# Altium schematic symbol library kmilo17pet-TI_StepDown.SchLib: 565 symbols (part 11 of 33)
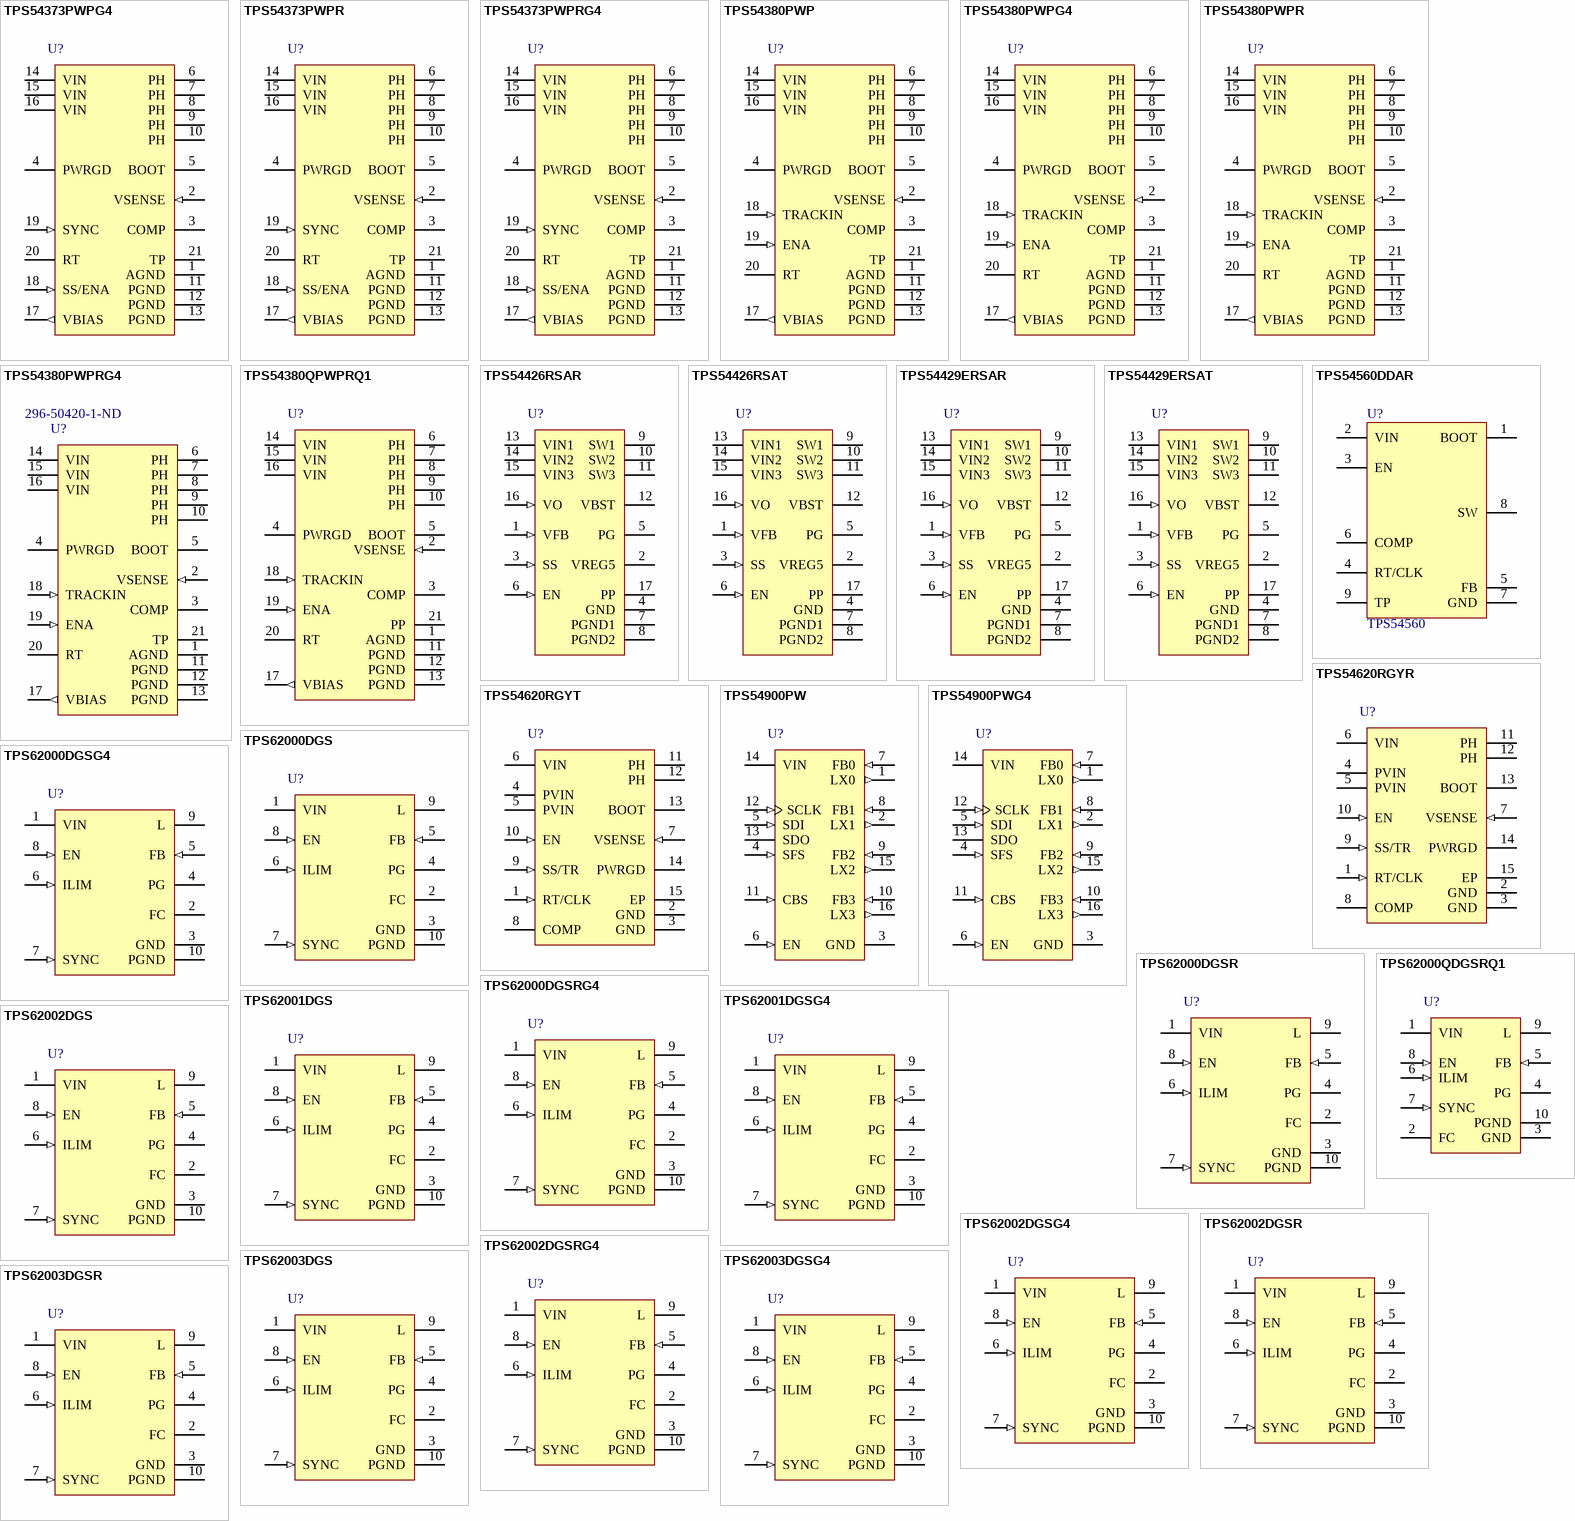
[diagram p29: symbols TPS54373PWPG4 to TPS62003DGSR]

## TPS54373PWPG4
designator U?
Buck Step Down Regulator with 3 to 6 V Input and 0.9 to 3.3 V Output, -40 to 85 degC, 20-Pin HTSSOP (PWP), Green (RoHS & no Sb/Br); Manufacturer: Texas Instruments; PartNumber: TPS54373PWPG4; Duty Cycle(Max)(%): 90; Iout(Max)(A): 3; Iq(Typ)(mA): 6.2; Rating: Catalog; Regulated Outputs(#): 1; SubFamily: Step-Down Regulator; Switch Current Limit(Typ)(A): 4; Synchronous Rectification: TRUE; Vin(Max)(V): 6; Vout(Max)(V): 3.3; Vout(Min)(V): 0.9; DatasheetVersion: SLVS455B; PackageVersion: revI, May-2011; PackageReference: PWP20-3005X2005TP; PackageDescription: 20-Pin PowerPAD Plastic Small Outline 6.5 x 4.4 mm Body ,0.65 mm Pitch, Exposed Pad; Supplier 1: Digi-Key; Supplier Part Number 1: TPS54373PWPG4-ND; Eco-Plan: Green (RoHS & no Sb/Br); Topology: Buck; Vin(Min)(V): 3; Mounting Technology: Surface Mount; Code_JEDEC: MO-153; ComponentLink1Description: Datasheet; ComponentLink1URL: http://www.ti.com/general/docs/lit/getliterature.tsp?genericPartNumber=TPS54373&fileType=pdf; ComponentLink2Description: Package Specification; ComponentLink2URL: http://www.ti.com/lit/ml/mhts001g/mhts001g.pdf; ComponentLink3Description: URL Link1; ComponentLink3URL: Samples URL:http://www.ti.com/product/tps54373#samples
footprint PWP20-3005X2005TP_N (TSOP, 20-Leads, Body 6.5x4.4mm, Pitch 0.65mm, Thermal Pad 3.7x2.4 mm, IPC Medium Density)
footprint PWP20-3005X2005TP_L (TSOP, 20-Leads, Body 6.5x4.4mm, Pitch 0.65mm, Thermal Pad 3.7x2.4 mm, IPC High Density)
footprint PWP20-3005X2005TP_M (TSOP, 20-Leads, Body 6.5x4.4mm, Pitch 0.65mm, Thermal Pad 3.7x2.4 mm, IPC Low Density)
pins: 1 AGND (power) "Analog ground. Return for compensation network/output divider, slow-start capacitor, VBIAS capacitor, RT resistor and SYNC pin. Connect PowerPAD to AGND.", 2 VSENSE (in) "Error amplifier inverting input. Connect to output voltage through compensation network/output divider.", 3 COMP "Error amplifier output. Connect frequency compensation network from COMP to VSENSE", 4 PWRGD (oc) "Power-good open-drain output. High when VSENSE >= 90% Vref, otherwise PWRGD is low. Note that output is low when SS/ENA is low, or the internal shutdown signal is active.", 5 BOOT "Bootstrap output. 0.022-uF to 0.1-uF low-ESR capacitor connected from BOOT to PH generates floating drive for the high-side FET driver.", 6 PH (power) "Phase output. Junction of the internal high-side and low-side power MOSFETs, and output inductor.", 7 PH (power) "Phase output. Junction of the internal high-side and low-side power MOSFETs, and output inductor.", 8 PH (power) "Phase output. Junction of the internal high-side and low-side power MOSFETs, and output inductor.", 9 PH (power) "Phase output. Junction of the internal high-side and low-side power MOSFETs, and output inductor.", 10 PH (power) "Phase output. Junction of the internal high-side and low-side power MOSFETs, and output inductor.", 11 PGND (power) "Power ground. High current return for the low-side driver and power MOSFET. Connect PGND with large copper areas to the input and output supply returns, and negative terminals of the input and output capacitors. A (See Datasheet)", 12 PGND (power) "Power ground. High current return for the low-side driver and power MOSFET. Connect PGND with large copper areas to the input and output supply returns, and negative terminals of the input and output capacitors. A (See Datasheet)", 13 PGND (power) "Power ground. High current return for the low-side driver and power MOSFET. Connect PGND with large copper areas to the input and output supply returns, and negative terminals of the input and output capacitors. A (See Datasheet)", 14 VIN (power) "Input supply for the power MOSFET switches and internal bias regulator. Bypass VIN pins to PGND pins close to device package with a high quality, low-ESR 10-uF ceramic capacitor.", 15 VIN (power) "Input supply for the power MOSFET switches and internal bias regulator. Bypass VIN pins to PGND pins close to device package with a high quality, low-ESR 10-uF ceramic capacitor.", 16 VIN (power) "Input supply for the power MOSFET switches and internal bias regulator. Bypass VIN pins to PGND pins close to device package with a high quality, low-ESR 10-uF ceramic capacitor.", 17 VBIAS (out) "Internal bias regulator output. Supplies regulated voltage to internal circuitry. Bypass VBIAS pin to AGND pin with a high quality, low-ESR 0.1-uF to 1.0-uF ceramic capacitor.", 18 SS/ENA (in) "Slow-start/enable input/output. Dual function pin which provides logic input to enable/disable device operation and capacitor input to externally set the start-up time.", 19 SYNC (in) "Synchronization input. Dual function pin which provides logic input to synchronize to an external oscillator or pin select between two internally set switching frequencies. When used to synchronize to an external signal, a (See Datasheet)", 20 RT "Frequency setting resistor input. Connect a resistor from RT to AGND to set the switching frequency. When using the SYNC pin, set the RT value for a frequency at or slightly lower than the external oscillator frequency.", 21 TP (power) "Exposed Thermal Pad"

## TPS54373PWPR
designator U?
Buck Step Down Regulator with 3 to 6 V Input and 0.9 to 3.3 V Output, -40 to 85 degC, 20-Pin HTSSOP (PWP), Green (RoHS & no Sb/Br); Manufacturer: Texas Instruments; PartNumber: TPS54373PWPR; Duty Cycle(Max)(%): 90; Iout(Max)(A): 3; Iq(Typ)(mA): 6.2; Rating: Catalog; Regulated Outputs(#): 1; SubFamily: Step-Down Regulator; Switch Current Limit(Typ)(A): 4; Synchronous Rectification: TRUE; Vin(Max)(V): 6; Vout(Max)(V): 3.3; Vout(Min)(V): 0.9; DatasheetVersion: SLVS455B; PackageVersion: revI, May-2011; PackageReference: PWP20-3005X2005TP; PackageDescription: 20-Pin PowerPAD Plastic Small Outline 6.5 x 4.4 mm Body ,0.65 mm Pitch, Exposed Pad; Supplier 1: Digi-Key; Supplier Part Number 1: TPS54373PWPR-ND; Eco-Plan: Green (RoHS & no Sb/Br); Topology: Buck; Vin(Min)(V): 3; Mounting Technology: Surface Mount; Code_JEDEC: MO-153; ComponentLink1Description: Datasheet; ComponentLink1URL: http://www.ti.com/general/docs/lit/getliterature.tsp?genericPartNumber=TPS54373&fileType=pdf; ComponentLink2Description: Package Specification; ComponentLink2URL: http://www.ti.com/lit/ml/mhts001g/mhts001g.pdf; ComponentLink3Description: URL Link1; ComponentLink3URL: Samples URL:http://www.ti.com/product/tps54373#samples
footprint PWP20-3005X2005TP_N (TSOP, 20-Leads, Body 6.5x4.4mm, Pitch 0.65mm, Thermal Pad 3.7x2.4 mm, IPC Medium Density)
footprint PWP20-3005X2005TP_L (TSOP, 20-Leads, Body 6.5x4.4mm, Pitch 0.65mm, Thermal Pad 3.7x2.4 mm, IPC High Density)
footprint PWP20-3005X2005TP_M (TSOP, 20-Leads, Body 6.5x4.4mm, Pitch 0.65mm, Thermal Pad 3.7x2.4 mm, IPC Low Density)
pins: 1 AGND (power) "Analog ground. Return for compensation network/output divider, slow-start capacitor, VBIAS capacitor, RT resistor and SYNC pin. Connect PowerPAD to AGND.", 2 VSENSE (in) "Error amplifier inverting input. Connect to output voltage through compensation network/output divider.", 3 COMP "Error amplifier output. Connect frequency compensation network from COMP to VSENSE", 4 PWRGD (oc) "Power-good open-drain output. High when VSENSE >= 90% Vref, otherwise PWRGD is low. Note that output is low when SS/ENA is low, or the internal shutdown signal is active.", 5 BOOT "Bootstrap output. 0.022-uF to 0.1-uF low-ESR capacitor connected from BOOT to PH generates floating drive for the high-side FET driver.", 6 PH (power) "Phase output. Junction of the internal high-side and low-side power MOSFETs, and output inductor.", 7 PH (power) "Phase output. Junction of the internal high-side and low-side power MOSFETs, and output inductor.", 8 PH (power) "Phase output. Junction of the internal high-side and low-side power MOSFETs, and output inductor.", 9 PH (power) "Phase output. Junction of the internal high-side and low-side power MOSFETs, and output inductor.", 10 PH (power) "Phase output. Junction of the internal high-side and low-side power MOSFETs, and output inductor.", 11 PGND (power) "Power ground. High current return for the low-side driver and power MOSFET. Connect PGND with large copper areas to the input and output supply returns, and negative terminals of the input and output capacitors. A (See Datasheet)", 12 PGND (power) "Power ground. High current return for the low-side driver and power MOSFET. Connect PGND with large copper areas to the input and output supply returns, and negative terminals of the input and output capacitors. A (See Datasheet)", 13 PGND (power) "Power ground. High current return for the low-side driver and power MOSFET. Connect PGND with large copper areas to the input and output supply returns, and negative terminals of the input and output capacitors. A (See Datasheet)", 14 VIN (power) "Input supply for the power MOSFET switches and internal bias regulator. Bypass VIN pins to PGND pins close to device package with a high quality, low-ESR 10-uF ceramic capacitor.", 15 VIN (power) "Input supply for the power MOSFET switches and internal bias regulator. Bypass VIN pins to PGND pins close to device package with a high quality, low-ESR 10-uF ceramic capacitor.", 16 VIN (power) "Input supply for the power MOSFET switches and internal bias regulator. Bypass VIN pins to PGND pins close to device package with a high quality, low-ESR 10-uF ceramic capacitor.", 17 VBIAS (out) "Internal bias regulator output. Supplies regulated voltage to internal circuitry. Bypass VBIAS pin to AGND pin with a high quality, low-ESR 0.1-uF to 1.0-uF ceramic capacitor.", 18 SS/ENA (in) "Slow-start/enable input/output. Dual function pin which provides logic input to enable/disable device operation and capacitor input to externally set the start-up time.", 19 SYNC (in) "Synchronization input. Dual function pin which provides logic input to synchronize to an external oscillator or pin select between two internally set switching frequencies. When used to synchronize to an external signal, a (See Datasheet)", 20 RT "Frequency setting resistor input. Connect a resistor from RT to AGND to set the switching frequency. When using the SYNC pin, set the RT value for a frequency at or slightly lower than the external oscillator frequency.", 21 TP (power) "Exposed Thermal Pad"

## TPS54373PWPRG4
designator U?
Buck Step Down Regulator with 3 to 6 V Input and 0.9 to 3.3 V Output, -40 to 85 degC, 20-Pin HTSSOP (PWP), Green (RoHS & no Sb/Br); Manufacturer: Texas Instruments; PartNumber: TPS54373PWPRG4; Duty Cycle(Max)(%): 90; Iout(Max)(A): 3; Iq(Typ)(mA): 6.2; Rating: Catalog; Regulated Outputs(#): 1; SubFamily: Step-Down Regulator; Switch Current Limit(Typ)(A): 4; Synchronous Rectification: TRUE; Vin(Max)(V): 6; Vout(Max)(V): 3.3; Vout(Min)(V): 0.9; DatasheetVersion: SLVS455B; PackageVersion: revI, May-2011; PackageReference: PWP20-3005X2005TP; PackageDescription: 20-Pin PowerPAD Plastic Small Outline 6.5 x 4.4 mm Body ,0.65 mm Pitch, Exposed Pad; Supplier 1: Digi-Key; Supplier Part Number 1: TPS54373PWPRG4-ND; Eco-Plan: Green (RoHS & no Sb/Br); Topology: Buck; Vin(Min)(V): 3; Mounting Technology: Surface Mount; Code_JEDEC: MO-153; ComponentLink1Description: Datasheet; ComponentLink1URL: http://www.ti.com/general/docs/lit/getliterature.tsp?genericPartNumber=TPS54373&fileType=pdf; ComponentLink2Description: Package Specification; ComponentLink2URL: http://www.ti.com/lit/ml/mhts001g/mhts001g.pdf; ComponentLink3Description: URL Link1; ComponentLink3URL: Samples URL:http://www.ti.com/product/tps54611#samples
footprint PWP20-3005X2005TP_N (TSOP, 20-Leads, Body 6.5x4.4mm, Pitch 0.65mm, Thermal Pad 3.7x2.4 mm, IPC Medium Density)
footprint PWP20-3005X2005TP_L (TSOP, 20-Leads, Body 6.5x4.4mm, Pitch 0.65mm, Thermal Pad 3.7x2.4 mm, IPC High Density)
footprint PWP20-3005X2005TP_M (TSOP, 20-Leads, Body 6.5x4.4mm, Pitch 0.65mm, Thermal Pad 3.7x2.4 mm, IPC Low Density)
pins: 1 AGND (power) "Analog ground. Return for compensation network/output divider, slow-start capacitor, VBIAS capacitor, RT resistor and SYNC pin. Connect PowerPAD to AGND.", 2 VSENSE (in) "Error amplifier inverting input. Connect to output voltage through compensation network/output divider.", 3 COMP "Error amplifier output. Connect frequency compensation network from COMP to VSENSE", 4 PWRGD (oc) "Power-good open-drain output. High when VSENSE >= 90% Vref, otherwise PWRGD is low. Note that output is low when SS/ENA is low, or the internal shutdown signal is active.", 5 BOOT "Bootstrap output. 0.022-uF to 0.1-uF low-ESR capacitor connected from BOOT to PH generates floating drive for the high-side FET driver.", 6 PH (power) "Phase output. Junction of the internal high-side and low-side power MOSFETs, and output inductor.", 7 PH (power) "Phase output. Junction of the internal high-side and low-side power MOSFETs, and output inductor.", 8 PH (power) "Phase output. Junction of the internal high-side and low-side power MOSFETs, and output inductor.", 9 PH (power) "Phase output. Junction of the internal high-side and low-side power MOSFETs, and output inductor.", 10 PH (power) "Phase output. Junction of the internal high-side and low-side power MOSFETs, and output inductor.", 11 PGND (power) "Power ground. High current return for the low-side driver and power MOSFET. Connect PGND with large copper areas to the input and output supply returns, and negative terminals of the input and output capacitors. A (See Datasheet)", 12 PGND (power) "Power ground. High current return for the low-side driver and power MOSFET. Connect PGND with large copper areas to the input and output supply returns, and negative terminals of the input and output capacitors. A (See Datasheet)", 13 PGND (power) "Power ground. High current return for the low-side driver and power MOSFET. Connect PGND with large copper areas to the input and output supply returns, and negative terminals of the input and output capacitors. A (See Datasheet)", 14 VIN (power) "Input supply for the power MOSFET switches and internal bias regulator. Bypass VIN pins to PGND pins close to device package with a high quality, low-ESR 10-uF ceramic capacitor.", 15 VIN (power) "Input supply for the power MOSFET switches and internal bias regulator. Bypass VIN pins to PGND pins close to device package with a high quality, low-ESR 10-uF ceramic capacitor.", 16 VIN (power) "Input supply for the power MOSFET switches and internal bias regulator. Bypass VIN pins to PGND pins close to device package with a high quality, low-ESR 10-uF ceramic capacitor.", 17 VBIAS (out) "Internal bias regulator output. Supplies regulated voltage to internal circuitry. Bypass VBIAS pin to AGND pin with a high quality, low-ESR 0.1-uF to 1.0-uF ceramic capacitor.", 18 SS/ENA (in) "Slow-start/enable input/output. Dual function pin which provides logic input to enable/disable device operation and capacitor input to externally set the start-up time.", 19 SYNC (in) "Synchronization input. Dual function pin which provides logic input to synchronize to an external oscillator or pin select between two internally set switching frequencies. When used to synchronize to an external signal, a (See Datasheet)", 20 RT "Frequency setting resistor input. Connect a resistor from RT to AGND to set the switching frequency. When using the SYNC pin, set the RT value for a frequency at or slightly lower than the external oscillator frequency.", 21 TP (power) "Exposed Thermal Pad"

## TPS54380PWP
designator U?
Buck Step Down Regulator with 3 to 6 V Input and 0.9 to 4.5 V Output, -40 to 85 degC, 20-Pin HTSSOP (PWP), Green (RoHS & no Sb/Br); Manufacturer: Texas Instruments; PartNumber: TPS54380PWP; Duty Cycle(Max)(%): 90; Iout(Max)(A): 3; Iq(Typ)(mA): 6.2; Rating: Catalog; Regulated Outputs(#): 1; SubFamily: Step-Down Regulator; Switch Current Limit(Typ)(A): 4; Synchronous Rectification: TRUE; Vin(Max)(V): 6; Vout(Max)(V): 4.5; Vout(Min)(V): 0.9; DatasheetVersion: SLVS454B; PackageVersion: revI, May-2011; PackageReference: PWP20-3005X2005TP; PackageDescription: 20-Pin PowerPAD Plastic Small Outline 6.5 x 4.4 mm Body ,0.65 mm Pitch, Exposed Pad; Supplier 1: Digi-Key; Supplier Part Number 1: 296-14391-ND; Eco-Plan: Green (RoHS & no Sb/Br); Topology: Buck; Vin(Min)(V): 3; Mounting Technology: Surface Mount; Code_JEDEC: MO-153; ComponentLink1Description: Datasheet; ComponentLink1URL: http://www.ti.com/general/docs/lit/getliterature.tsp?genericPartNumber=TPS54380&fileType=pdf; ComponentLink2Description: Package Specification; ComponentLink2URL: http://www.ti.com/lit/ml/mhts001g/mhts001g.pdf; ComponentLink3Description: URL Link1; ComponentLink3URL: Samples URL:http://www.ti.com/product/tps54380#samples
footprint PWP20-3005X2005TP_N (TSOP, 20-Leads, Body 6.5x4.4mm, Pitch 0.65mm, Thermal Pad 3.7x2.4 mm, IPC Medium Density)
footprint PWP20-3005X2005TP_L (TSOP, 20-Leads, Body 6.5x4.4mm, Pitch 0.65mm, Thermal Pad 3.7x2.4 mm, IPC High Density)
footprint PWP20-3005X2005TP_M (TSOP, 20-Leads, Body 6.5x4.4mm, Pitch 0.65mm, Thermal Pad 3.7x2.4 mm, IPC Low Density)
pins: 1 AGND (power) "Analog ground. Return for compensation network/output divider, slow-start capacitor, VBIAS capacitor, RT resistor. Connect PowerPAD to AGND.", 2 VSENSE (in) "Error amplifier inverting input. Connect to output voltage through compensation network/output divider.", 3 COMP "Error amplifier output. Connect frequency compensation network from COMP to VSENSE", 4 PWRGD (oc) "Power-good open-drain output. High when VSENSE >= 90% Vref, otherwise PWRGD is low.", 5 BOOT "Bootstrap output. 0.022-uF to 0.1-uF low-ESR capacitor connected from BOOT to PH generates floating drive for the high-side FET driver.", 6 PH (power) "Phase output. Junction of the internal high-side and low-side power MOSFETs and output inductor.", 7 PH (power) "Phase output. Junction of the internal high-side and low-side power MOSFETs and output inductor.", 8 PH (power) "Phase output. Junction of the internal high-side and low-side power MOSFETs and output inductor.", 9 PH (power) "Phase output. Junction of the internal high-side and low-side power MOSFETs and output inductor.", 10 PH (power) "Phase output. Junction of the internal high-side and low-side power MOSFETs and output inductor.", 11 PGND (power) "Power ground. High current return for the low-side driver and power MOSFET. Connect PGND with large copper areas to the input and output supply returns, and negative terminals of the input and output capacitors. A (See Datasheet)", 12 PGND (power) "Power ground. High current return for the low-side driver and power MOSFET. Connect PGND with large copper areas to the input and output supply returns, and negative terminals of the input and output capacitors. A (See Datasheet)", 13 PGND (power) "Power ground. High current return for the low-side driver and power MOSFET. Connect PGND with large copper areas to the input and output supply returns, and negative terminals of the input and output capacitors. A (See Datasheet)", 14 VIN (power) "Input supply for the power MOSFET switches and internal bias regulator. Bypass VIN pins to PGND pins close to device package with a high quality, low-ESR 10-uF ceramic capacitor.", 15 VIN (power) "Input supply for the power MOSFET switches and internal bias regulator. Bypass VIN pins to PGND pins close to device package with a high quality, low-ESR 10-uF ceramic capacitor.", 16 VIN (power) "Input supply for the power MOSFET switches and internal bias regulator. Bypass VIN pins to PGND pins close to device package with a high quality, low-ESR 10-uF ceramic capacitor.", 17 VBIAS (out) "Internal bias regulator output. Supplies regulated voltage to internal circuitry. Bypass VBIAS pin to AGND pin with a high quality, low-ESR 0.1-uF to 1.0-uF ceramic capacitor.", 18 TRACKIN (in) "External reference input. High impedance input to internal reference/multiplexer and error amplifier circuits.", 19 ENA (in) "Enable input. Logic high enables oscillator, PWM control and MOSFET driver circuits. Logic low disables operation and places device in low quiescent current state.", 20 RT "Frequency setting resistor input. Connect a resistor from RT to AGND to set the switching frequency.", 21 TP (power) "Exposed Thermal Pad"

## TPS54380PWPG4
designator U?
Buck Step Down Regulator with 3 to 6 V Input and 0.9 to 4.5 V Output, -40 to 85 degC, 20-Pin HTSSOP (PWP), Green (RoHS & no Sb/Br); Manufacturer: Texas Instruments; PartNumber: TPS54380PWPG4; Duty Cycle(Max)(%): 90; Iout(Max)(A): 3; Iq(Typ)(mA): 6.2; Rating: Catalog; Regulated Outputs(#): 1; SubFamily: Step-Down Regulator; Switch Current Limit(Typ)(A): 4; Synchronous Rectification: TRUE; Vin(Max)(V): 6; Vout(Max)(V): 4.5; Vout(Min)(V): 0.9; DatasheetVersion: SLVS454B; PackageVersion: revI, May-2011; PackageReference: PWP20-3005X2005TP; PackageDescription: 20-Pin PowerPAD Plastic Small Outline 6.5 x 4.4 mm Body ,0.65 mm Pitch, Exposed Pad; Supplier 1: Digi-Key; Supplier Part Number 1: TPS54380PWPG4-ND; Eco-Plan: Green (RoHS & no Sb/Br); Topology: Buck; Vin(Min)(V): 3; Mounting Technology: Surface Mount; Code_JEDEC: MO-153; ComponentLink1Description: Datasheet; ComponentLink1URL: http://www.ti.com/general/docs/lit/getliterature.tsp?genericPartNumber=TPS54380&fileType=pdf; ComponentLink2Description: Package Specification; ComponentLink2URL: http://www.ti.com/lit/ml/mhts001g/mhts001g.pdf; ComponentLink3Description: URL Link1; ComponentLink3URL: Samples URL:http://www.ti.com/product/tps54380#samples
footprint PWP20-3005X2005TP_N (TSOP, 20-Leads, Body 6.5x4.4mm, Pitch 0.65mm, Thermal Pad 3.7x2.4 mm, IPC Medium Density)
footprint PWP20-3005X2005TP_L (TSOP, 20-Leads, Body 6.5x4.4mm, Pitch 0.65mm, Thermal Pad 3.7x2.4 mm, IPC High Density)
footprint PWP20-3005X2005TP_M (TSOP, 20-Leads, Body 6.5x4.4mm, Pitch 0.65mm, Thermal Pad 3.7x2.4 mm, IPC Low Density)
pins: 1 AGND (power) "Analog ground. Return for compensation network/output divider, slow-start capacitor, VBIAS capacitor, RT resistor. Connect PowerPAD to AGND.", 2 VSENSE (in) "Error amplifier inverting input. Connect to output voltage through compensation network/output divider.", 3 COMP "Error amplifier output. Connect frequency compensation network from COMP to VSENSE", 4 PWRGD (oc) "Power-good open-drain output. High when VSENSE >= 90% Vref, otherwise PWRGD is low.", 5 BOOT "Bootstrap output. 0.022-uF to 0.1-uF low-ESR capacitor connected from BOOT to PH generates floating drive for the high-side FET driver.", 6 PH (power) "Phase output. Junction of the internal high-side and low-side power MOSFETs and output inductor.", 7 PH (power) "Phase output. Junction of the internal high-side and low-side power MOSFETs and output inductor.", 8 PH (power) "Phase output. Junction of the internal high-side and low-side power MOSFETs and output inductor.", 9 PH (power) "Phase output. Junction of the internal high-side and low-side power MOSFETs and output inductor.", 10 PH (power) "Phase output. Junction of the internal high-side and low-side power MOSFETs and output inductor.", 11 PGND (power) "Power ground. High current return for the low-side driver and power MOSFET. Connect PGND with large copper areas to the input and output supply returns, and negative terminals of the input and output capacitors. A (See Datasheet)", 12 PGND (power) "Power ground. High current return for the low-side driver and power MOSFET. Connect PGND with large copper areas to the input and output supply returns, and negative terminals of the input and output capacitors. A (See Datasheet)", 13 PGND (power) "Power ground. High current return for the low-side driver and power MOSFET. Connect PGND with large copper areas to the input and output supply returns, and negative terminals of the input and output capacitors. A (See Datasheet)", 14 VIN (power) "Input supply for the power MOSFET switches and internal bias regulator. Bypass VIN pins to PGND pins close to device package with a high quality, low-ESR 10-uF ceramic capacitor.", 15 VIN (power) "Input supply for the power MOSFET switches and internal bias regulator. Bypass VIN pins to PGND pins close to device package with a high quality, low-ESR 10-uF ceramic capacitor.", 16 VIN (power) "Input supply for the power MOSFET switches and internal bias regulator. Bypass VIN pins to PGND pins close to device package with a high quality, low-ESR 10-uF ceramic capacitor.", 17 VBIAS (out) "Internal bias regulator output. Supplies regulated voltage to internal circuitry. Bypass VBIAS pin to AGND pin with a high quality, low-ESR 0.1-uF to 1.0-uF ceramic capacitor.", 18 TRACKIN (in) "External reference input. High impedance input to internal reference/multiplexer and error amplifier circuits.", 19 ENA (in) "Enable input. Logic high enables oscillator, PWM control and MOSFET driver circuits. Logic low disables operation and places device in low quiescent current state.", 20 RT "Frequency setting resistor input. Connect a resistor from RT to AGND to set the switching frequency.", 21 TP (power) "Exposed Thermal Pad"

## TPS54380PWPR
designator U?
Buck Step Down Regulator with 3 to 6 V Input and 0.9 to 4.5 V Output, -40 to 85 degC, 20-Pin HTSSOP (PWP), Green (RoHS & no Sb/Br); Manufacturer: Texas Instruments; PartNumber: TPS54380PWPR; Duty Cycle(Max)(%): 90; Iout(Max)(A): 3; Iq(Typ)(mA): 6.2; Rating: Catalog; Regulated Outputs(#): 1; SubFamily: Step-Down Regulator; Switch Current Limit(Typ)(A): 4; Synchronous Rectification: TRUE; Vin(Max)(V): 6; Vout(Max)(V): 4.5; Vout(Min)(V): 0.9; DatasheetVersion: SLVS454B; PackageVersion: revI, May-2011; PackageReference: PWP20-3005X2005TP; PackageDescription: 20-Pin PowerPAD Plastic Small Outline 6.5 x 4.4 mm Body ,0.65 mm Pitch, Exposed Pad; Supplier 1: Digi-Key; Supplier Part Number 1: 296-26994-2-ND; Eco-Plan: Green (RoHS & no Sb/Br); Topology: Buck; Vin(Min)(V): 3; Mounting Technology: Surface Mount; Code_JEDEC: MO-153; ComponentLink1Description: Datasheet; ComponentLink1URL: http://www.ti.com/general/docs/lit/getliterature.tsp?genericPartNumber=TPS54380&fileType=pdf; ComponentLink2Description: Package Specification; ComponentLink2URL: http://www.ti.com/lit/ml/mhts001g/mhts001g.pdf; ComponentLink3Description: URL Link1; ComponentLink3URL: Samples URL:http://www.ti.com/product/tps54380#samples
footprint PWP20-3005X2005TP_N (TSOP, 20-Leads, Body 6.5x4.4mm, Pitch 0.65mm, Thermal Pad 3.7x2.4 mm, IPC Medium Density)
footprint PWP20-3005X2005TP_L (TSOP, 20-Leads, Body 6.5x4.4mm, Pitch 0.65mm, Thermal Pad 3.7x2.4 mm, IPC High Density)
footprint PWP20-3005X2005TP_M (TSOP, 20-Leads, Body 6.5x4.4mm, Pitch 0.65mm, Thermal Pad 3.7x2.4 mm, IPC Low Density)
pins: 1 AGND (power) "Analog ground. Return for compensation network/output divider, slow-start capacitor, VBIAS capacitor, RT resistor. Connect PowerPAD to AGND.", 2 VSENSE (in) "Error amplifier inverting input. Connect to output voltage through compensation network/output divider.", 3 COMP "Error amplifier output. Connect frequency compensation network from COMP to VSENSE", 4 PWRGD (oc) "Power-good open-drain output. High when VSENSE >= 90% Vref, otherwise PWRGD is low.", 5 BOOT "Bootstrap output. 0.022-uF to 0.1-uF low-ESR capacitor connected from BOOT to PH generates floating drive for the high-side FET driver.", 6 PH (power) "Phase output. Junction of the internal high-side and low-side power MOSFETs and output inductor.", 7 PH (power) "Phase output. Junction of the internal high-side and low-side power MOSFETs and output inductor.", 8 PH (power) "Phase output. Junction of the internal high-side and low-side power MOSFETs and output inductor.", 9 PH (power) "Phase output. Junction of the internal high-side and low-side power MOSFETs and output inductor.", 10 PH (power) "Phase output. Junction of the internal high-side and low-side power MOSFETs and output inductor.", 11 PGND (power) "Power ground. High current return for the low-side driver and power MOSFET. Connect PGND with large copper areas to the input and output supply returns, and negative terminals of the input and output capacitors. A (See Datasheet)", 12 PGND (power) "Power ground. High current return for the low-side driver and power MOSFET. Connect PGND with large copper areas to the input and output supply returns, and negative terminals of the input and output capacitors. A (See Datasheet)", 13 PGND (power) "Power ground. High current return for the low-side driver and power MOSFET. Connect PGND with large copper areas to the input and output supply returns, and negative terminals of the input and output capacitors. A (See Datasheet)", 14 VIN (power) "Input supply for the power MOSFET switches and internal bias regulator. Bypass VIN pins to PGND pins close to device package with a high quality, low-ESR 10-uF ceramic capacitor.", 15 VIN (power) "Input supply for the power MOSFET switches and internal bias regulator. Bypass VIN pins to PGND pins close to device package with a high quality, low-ESR 10-uF ceramic capacitor.", 16 VIN (power) "Input supply for the power MOSFET switches and internal bias regulator. Bypass VIN pins to PGND pins close to device package with a high quality, low-ESR 10-uF ceramic capacitor.", 17 VBIAS (out) "Internal bias regulator output. Supplies regulated voltage to internal circuitry. Bypass VBIAS pin to AGND pin with a high quality, low-ESR 0.1-uF to 1.0-uF ceramic capacitor.", 18 TRACKIN (in) "External reference input. High impedance input to internal reference/multiplexer and error amplifier circuits.", 19 ENA (in) "Enable input. Logic high enables oscillator, PWM control and MOSFET driver circuits. Logic low disables operation and places device in low quiescent current state.", 20 RT "Frequency setting resistor input. Connect a resistor from RT to AGND to set the switching frequency.", 21 TP (power) "Exposed Thermal Pad"

## TPS54380PWPRG4
designator U?  Supplier Part Number 2: 296-50420-1-ND
Buck Step Down Regulator with 3 to 6 V Input and 0.9 to 4.5 V Output, -40 to 85 degC, 20-Pin HTSSOP (PWP), Green (RoHS & no Sb/Br); Manufacturer: Texas Instruments; PartNumber: TPS54380PWPRG4; Duty Cycle(Max)(%): 90; Iout(Max)(A): 3; Iq(Typ)(mA): 6.2; Preset Vout(V): 0.9; Rating: Catalog; Regulated Outputs(#): 1; SubFamily: Step-Down Regulator; Switch Current Limit(Typ)(A): 4; Synchronous Rectification: TRUE; Vin(Max)(V): 6; Vout(Max)(V): 4.5; DatasheetVersion: SLVS454B; PackageVersion: revI, May-2011; PackageReference: PWP20-3005X2005TP; PackageDescription: 20-Pin PowerPAD Plastic Small Outline 6.5 x 4.4 mm Body ,0.65 mm Pitch, Exposed Pad; Supplier 1: Digi-Key; Supplier Part Number 1: TPS54380PWPRG4-ND; Eco-Plan: Green (RoHS & no Sb/Br); Topology: Buck; Vin(Min)(V): 3; Vout(Min)(V): 0.9; Mounting Technology: Surface Mount; Code_JEDEC: MO-153; ComponentLink1Description: Datasheet; ComponentLink1URL: http://www.ti.com/general/docs/lit/getliterature.tsp?genericPartNumber=TPS54380&fileType=pdf; ComponentLink2Description: Package Specification; ComponentLink2URL: http://www.ti.com/lit/ml/mhts001g/mhts001g.pdf; ComponentLink3Description: URL Link1; ComponentLink3URL: Samples URL:http://www.ti.com/product/tps54611#samples; Supplier 2: Digi-Key
footprint PWP20-3005X2005TP_N (TSOP, 20-Leads, Body 6.5x4.4mm, Pitch 0.65mm, Thermal Pad 3.7x2.4 mm, IPC Medium Density)
footprint PWP20-3005X2005TP_L (TSOP, 20-Leads, Body 6.5x4.4mm, Pitch 0.65mm, Thermal Pad 3.7x2.4 mm, IPC High Density)
footprint PWP20-3005X2005TP_M (TSOP, 20-Leads, Body 6.5x4.4mm, Pitch 0.65mm, Thermal Pad 3.7x2.4 mm, IPC Low Density)
pins: 1 AGND (power) "Analog ground. Return for compensation network/output divider, slow-start capacitor, VBIAS capacitor, RT resistor. Connect PowerPAD to AGND.", 2 VSENSE (in) "Error amplifier inverting input. Connect to output voltage through compensation network/output divider.", 3 COMP "Error amplifier output. Connect frequency compensation network from COMP to VSENSE", 4 PWRGD (oc) "Power-good open-drain output. High when VSENSE >= 90% Vref, otherwise PWRGD is low.", 5 BOOT "Bootstrap output. 0.022-uF to 0.1-uF low-ESR capacitor connected from BOOT to PH generates floating drive for the high-side FET driver.", 6 PH (power) "Phase output. Junction of the internal high-side and low-side power MOSFETs and output inductor.", 7 PH (power) "Phase output. Junction of the internal high-side and low-side power MOSFETs and output inductor.", 8 PH (power) "Phase output. Junction of the internal high-side and low-side power MOSFETs and output inductor.", 9 PH (power) "Phase output. Junction of the internal high-side and low-side power MOSFETs and output inductor.", 10 PH (power) "Phase output. Junction of the internal high-side and low-side power MOSFETs and output inductor.", 11 PGND (power) "Power ground. High current return for the low-side driver and power MOSFET. Connect PGND with large copper areas to the input and output supply returns, and negative terminals of the input and output capacitors. A (See Datasheet)", 12 PGND (power) "Power ground. High current return for the low-side driver and power MOSFET. Connect PGND with large copper areas to the input and output supply returns, and negative terminals of the input and output capacitors. A (See Datasheet)", 13 PGND (power) "Power ground. High current return for the low-side driver and power MOSFET. Connect PGND with large copper areas to the input and output supply returns, and negative terminals of the input and output capacitors. A (See Datasheet)", 14 VIN (power) "Input supply for the power MOSFET switches and internal bias regulator. Bypass VIN pins to PGND pins close to device package with a high quality, low-ESR 10-uF ceramic capacitor.", 15 VIN (power) "Input supply for the power MOSFET switches and internal bias regulator. Bypass VIN pins to PGND pins close to device package with a high quality, low-ESR 10-uF ceramic capacitor.", 16 VIN (power) "Input supply for the power MOSFET switches and internal bias regulator. Bypass VIN pins to PGND pins close to device package with a high quality, low-ESR 10-uF ceramic capacitor.", 17 VBIAS (out) "Internal bias regulator output. Supplies regulated voltage to internal circuitry. Bypass VBIAS pin to AGND pin with a high quality, low-ESR 0.1-uF to 1.0-uF ceramic capacitor.", 18 TRACKIN (in) "External reference input. High impedance input to internal reference/multiplexer and error amplifier circuits.", 19 ENA (in) "Enable input. Logic high enables oscillator, PWM control and MOSFET driver circuits. Logic low disables operation and places device in low quiescent current state.", 20 RT "Frequency setting resistor input. Connect a resistor from RT to AGND to set the switching frequency.", 21 TP (power) "Exposed Thermal Pad"

## TPS54380QPWPRQ1
designator U?
Buck Step Down Regulator with 3 to 6 V Input and 0.9 to 4.5 V Output, -40 to 125 degC, 20-Pin HTSSOP (PWP), Green (RoHS & no Sb/Br); Manufacturer: Texas Instruments; PartNumber: TPS54380QPWPRQ1; Duty Cycle(Max)(%): 90; Iout(Max)(A): 3; Iq(Typ)(mA): 6.2; Rating: Automotive; Regulated Outputs(#): 1; SubFamily: Step-Down Regulator; Switch Current Limit(Typ)(A): 4; Synchronous Rectification: TRUE; Vin(Max)(V): 6; Vout(Max)(V): 4.5; Vout(Min)(V): 0.9; DatasheetVersion: SLVS836; PackageVersion: revI, May-2011; PackageReference: PWP20-3005X2005TP; PackageDescription: 20-Pin PowerPAD Plastic Small Outline 6.5 x 4.4 mm Body ,0.65 mm Pitch, Exposed Pad; Supplier 1: Digi-Key; Supplier Part Number 1: 296-23865-2-ND; Eco-Plan: Green (RoHS & no Sb/Br); Topology: Buck; Vin(Min)(V): 3; Mounting Technology: Surface Mount; Code_JEDEC: MO-153; ComponentLink1Description: Datasheet; ComponentLink1URL: http://www.ti.com/general/docs/lit/getliterature.tsp?genericPartNumber=TPS54380-Q1&fileType=pdf; ComponentLink2Description: Package Specification; ComponentLink2URL: http://www.ti.com/lit/ml/mhts001g/mhts001g.pdf; ComponentLink3Description: URL Link1; ComponentLink3URL: Samples URL:http://www.ti.com/product/tps54611#samples
footprint PWP20-3005X2005TP_N (TSOP, 20-Leads, Body 6.5x4.4mm, Pitch 0.65mm, Thermal Pad 3.7x2.4 mm, IPC Medium Density)
footprint PWP20-3005X2005TP_L (TSOP, 20-Leads, Body 6.5x4.4mm, Pitch 0.65mm, Thermal Pad 3.7x2.4 mm, IPC High Density)
footprint PWP20-3005X2005TP_M (TSOP, 20-Leads, Body 6.5x4.4mm, Pitch 0.65mm, Thermal Pad 3.7x2.4 mm, IPC Low Density)
pins: 1 AGND (power) "Analog ground. Return for compensation network/output divider, slow-start capacitor, VBIAS capacitor, RT resistor. Connect PowerPAD to AGND.", 2 VSENSE (in) "Error amplifier inverting input. Connect to output voltage through compensation network/output divider.", 3 COMP "Error amplifier output. Connect frequency compensation network from COMP to VSENSE", 4 PWRGD (oc) "Power-good open-drain output. High when VSENSE >= 90% Vref, otherwise PWRGD is low.", 5 BOOT "Bootstrap output. 0.022-uF to 0.1-uF low-ESR capacitor connected from BOOT to PH generates floating drive for the high-side FET driver", 6 PH (power) "Phase output. Junction of the internal high-side and low-side power MOSFETs and output inductor", 7 PH (power) "Phase output. Junction of the internal high-side and low-side power MOSFETs and output inductor", 8 PH (power) "Phase output. Junction of the internal high-side and low-side power MOSFETs and output inductor", 9 PH (power) "Phase output. Junction of the internal high-side and low-side power MOSFETs and output inductor", 10 PH (power) "Phase output. Junction of the internal high-side and low-side power MOSFETs and output inductor", 11 PGND (power) "Power ground. High current return for the low-side driver and power MOSFET. Connect PGND with large copper are as to the input and output supply returns, and negative terminals of the input and output capacitors. A (See Datasheet)", 12 PGND (power) "Power ground. High current return for the low-side driver and power MOSFET. Connect PGND with large copper are as to the input and output supply returns, and negative terminals of the input and output capacitors. A (See Datasheet)", 13 PGND (power) "Power ground. High current return for the low-side driver and power MOSFET. Connect PGND with large copper are as to the input and output supply returns, and negative terminals of the input and output capacitors. A (See Datasheet)", 14 VIN (power) "Input supply for the power MOSFET switches and internal bias regulator. Bypass VIN pins to PGND pins close to device package with a high quality, low-ESR 10-uF ceramic capacitor.", 15 VIN (power) "Input supply for the power MOSFET switches and internal bias regulator. Bypass VIN pins to PGND pins close to device package with a high quality, low-ESR 10-uF ceramic capacitor.", 16 VIN (power) "Input supply for the power MOSFET switches and internal bias regulator. Bypass VIN pins to PGND pins close to device package with a high quality, low-ESR 10-uF ceramic capacitor.", 17 VBIAS (out) "Internal bias regulator output. Supplies regulated voltage to internal circuitry. Bypass VBIAS pin to AGND pin with a high quality, low-ESR 0.1-uF to 1.0-uF ceramic capacitor", 18 TRACKIN (in) "External reference input. High impedance input to internal reference/multiplexer and error amplifier circuits.", 19 ENA (in) "Enable input. Logic high enables oscillator, PWM control and MOSFET driver circuits. Logic low disables operation and places device in low quiescent current state.", 20 RT "Frequency setting resistor input. Connect a resistor from RT to AGND to set the switching frequency", 21 PP (power) "Exposed Thermal Pad"

## TPS54426RSAR
designator U?
Buck Step Down Regulator with 4.5 to 18 V Input and 0.76 to 5.5 V Output, -40 to 85 degC, 16-Pin QFN (RSA), Green (RoHS & no Sb/Br); Manufacturer: Texas Instruments; PartNumber: TPS54426RSAR; Duty Cycle(Max)(%): 90; Iout(Max)(A): 4; Iq(Typ)(mA): 0.85; Rating: Catalog; Regulated Outputs(#): 1; SubFamily: Step-Down Regulator; Switch Current Limit(Typ)(A): 4.5; Synchronous Rectification: TRUE; Vin(Max)(V): 18; Vout(Max)(V): 5.5; Vout(Min)(V): 0.76; DatasheetVersion: SLVSAD6C; PackageVersion: revD, Jun-2011; PackageReference: RSA16-2700X2700TP; PackageDescription: 16-Pin Plastic Quad Flatpack No-Lead 0.65 mm Pitch; Supplier 1: Digi-Key; Supplier Part Number 1: 296-28111-2-ND; Eco-Plan: Green (RoHS & no Sb/Br); Topology: Buck; Vin(Min)(V): 4.5; Mounting Technology: Surface Mount; Code_JEDEC: MO-220; ComponentLink1Description: Datasheet; ComponentLink1URL: http://www.ti.com/general/docs/lit/getliterature.tsp?genericPartNumber=TPS54426&fileType=pdf; ComponentLink2Description: Package Specification; ComponentLink2URL: http://www.ti.com/litv/pdf/mpqf145c; ComponentLink3Description: URL Link1; ComponentLink3URL: Samples URL:http://www.ti.com/product/tps54426#samples
footprint RSA16-2700X2700TP (QFN, 16-Leads, Body 4x4mm, Pitch 0.65mm, Thermal Pad 2.7x2.7mm, TI Recommended)
pins: 1 VFB (in) "Converter feedback input. Connect to output voltage with feedback resistor divider.", 2 VREG5 (power) "5.5 V power supply output. A capacitor (typical 1 µF) should be connected to GND. VREG5 is not active when EN is low.", 3 SS (in) "Soft-start control. A external capacitor should be connected to GND.", 4 GND (power) "Signal ground pin.", 5 PG (oc) "Open drain power good output.", 6 EN (in) "Enable control input. EN is active high and must be pulled up to enable the device.", 7 PGND1 (power) "Ground returns for low-side MOSFET. Also serve as inputs of current comparators. Connect PGND2 PGND and GND strongly together near the IC.", 8 PGND2 (power) "Ground returns for low-side MOSFET. Also serve as inputs of current comparators. Connect PGND2 PGND and GND strongly together near the IC.", 9 SW1 (power) "Switch node connection between high-side NFET and low-side NFET. Also serve as inputs to current comparators.", 10 SW2 (power) "Switch node connection between high-side NFET and low-side NFET. Also serve as inputs to current comparators.", 11 SW3 (power) "Switch node connection between high-side NFET and low-side NFET. Also serve as inputs to current comparators.", 12 VBST "Supply input for high-side NFET gate driver (boost terminal). Connect capacitor from this pin to respective SW1, SW2 terminals. An internal PN diode is connected between VREG5 to VBST pin.", 13 VIN1 (power) "Power input and connected to high side NFET drain. Supply input for 5-V internal linear regulator for the control circuitry.", 14 VIN2 (power) "Power input and connected to high side NFET drain. Supply input for 5-V internal linear regulator for the control circuitry.", 15 VIN3 (power) "Power input and connected to high side NFET drain. Supply input for 5-V internal linear regulator for the control circuitry.", 16 VO (in) "Connect to output of converter. This terminal is used for On-Time Adjustment.", 17 PP (power) "Thermal pad of the package. Must be soldered to achieve appropriate dissipation. Should be connected to PGND."

## TPS54426RSAT
designator U?
Buck Step Down Regulator with 4.5 to 18 V Input and 0.76 to 5.5 V Output, -40 to 85 degC, 16-Pin QFN (RSA), Green (RoHS & no Sb/Br); Manufacturer: Texas Instruments; PartNumber: TPS54426RSAT; Duty Cycle(Max)(%): 90; Iout(Max)(A): 6; Iq(Typ)(mA): 0.85; Rating: Catalog; Regulated Outputs(#): 1; SubFamily: Step-Down Regulator; Switch Current Limit(Typ)(A): 4.5; Synchronous Rectification: TRUE; Vin(Max)(V): 18; Vout(Max)(V): 5.5; Vout(Min)(V): 0.76; DatasheetVersion: SLVSAD6C; PackageVersion: revD, Jun-2011; PackageReference: RSA16-2700X2700TP; PackageDescription: 16-Pin Plastic Quad Flatpack No-Lead 0.65 mm Pitch; Supplier 1: Digi-Key; Supplier Part Number 1: TPS54426RSAT-ND; Eco-Plan: Green (RoHS & no Sb/Br); Topology: Buck; Vin(Min)(V): 4.5; Mounting Technology: Surface Mount; Code_JEDEC: MO-220; ComponentLink1Description: Datasheet; ComponentLink1URL: http://www.ti.com/general/docs/lit/getliterature.tsp?genericPartNumber=TPS54426&fileType=pdf; ComponentLink2Description: Package Specification; ComponentLink2URL: http://www.ti.com/litv/pdf/mpqf145c; ComponentLink3Description: URL Link1; ComponentLink3URL: Samples URL:http://www.ti.com/product/tps54611#samples
footprint RSA16-2700X2700TP (QFN, 16-Leads, Body 4x4mm, Pitch 0.65mm, Thermal Pad 2.7x2.7mm, TI Recommended)
pins: 1 VFB (in) "Converter feedback input. Connect to output voltage with feedback resistor divider.", 2 VREG5 (power) "5.5 V power supply output. A capacitor (typical 1 µF) should be connected to GND. VREG5 is not active when EN is low.", 3 SS (in) "Soft-start control. A external capacitor should be connected to GND.", 4 GND (power) "Signal ground pin.", 5 PG (oc) "Open drain power good output.", 6 EN (in) "Enable control input. EN is active high and must be pulled up to enable the device.", 7 PGND1 (power) "Ground returns for low-side MOSFET. Also serve as inputs of current comparators. Connect PGND2 PGND and GND strongly together near the IC.", 8 PGND2 (power) "Ground returns for low-side MOSFET. Also serve as inputs of current comparators. Connect PGND2 PGND and GND strongly together near the IC.", 9 SW1 (power) "Switch node connection between high-side NFET and low-side NFET. Also serve as inputs to current comparators.", 10 SW2 (power) "Switch node connection between high-side NFET and low-side NFET. Also serve as inputs to current comparators.", 11 SW3 (power) "Switch node connection between high-side NFET and low-side NFET. Also serve as inputs to current comparators.", 12 VBST "Supply input for high-side NFET gate driver (boost terminal). Connect capacitor from this pin to respective SW1, SW2 terminals. An internal PN diode is connected between VREG5 to VBST pin.", 13 VIN1 (power) "Power input and connected to high side NFET drain. Supply input for 5-V internal linear regulator for the control circuitry.", 14 VIN2 (power) "Power input and connected to high side NFET drain. Supply input for 5-V internal linear regulator for the control circuitry.", 15 VIN3 (power) "Power input and connected to high side NFET drain. Supply input for 5-V internal linear regulator for the control circuitry.", 16 VO (in) "Connect to output of converter. This terminal is used for On-Time Adjustment.", 17 PP (power) "Thermal pad of the package. Must be soldered to achieve appropriate dissipation. Should be connected to PGND."

## TPS54429ERSAR
designator U?
Buck Step Down Regulator with 7 to 18 V Input and 0.76 to 5.5 V Output, -20 to 85 degC, 16-Pin QFN (RSA), Green (RoHS & no Sb/Br); Manufacturer: Texas Instruments; PartNumber: TPS54429ERSAR; Duty Cycle(Max)(%): 98; Iout(Max)(A): 4.5; Iq(Typ)(mA): 0.6; Rating: Catalog; Regulated Outputs(#): 1; SubFamily: Step-Down Regulator; Switch Current Limit(Typ)(A): 5.3; Synchronous Rectification: TRUE; Vin(Max)(V): 18; Vin(Min)(V): 7; Vout(Max)(V): 5.5; Vout(Min)(V): 0.76; DatasheetVersion: SLVSAS0; PackageVersion: revD, Jun-2011; PackageReference: RSA16-2700X2700TP; PackageDescription: 16-Pin Plastic Quad Flatpack No-Lead 0.65 mm Pitch; Supplier 1: Digi-Key; Supplier Part Number 1: 296-28909-2-ND; Eco-Plan: Green (RoHS & no Sb/Br); Topology: Buck; Mounting Technology: Surface Mount; Code_JEDEC: MO-220; ComponentLink1Description: Datasheet; ComponentLink1URL: http://www.ti.com/general/docs/lit/getliterature.tsp?genericPartNumber=TPS54429E&fileType=pdf; ComponentLink2Description: Package Specification; ComponentLink2URL: http://www.ti.com/litv/pdf/mpqf145c; ComponentLink3Description: URL Link1; ComponentLink3URL: Samples URL:http://www.ti.com/product/tps54429e#samples
footprint RSA16-2700X2700TP (QFN, 16-Leads, Body 4x4mm, Pitch 0.65mm, Thermal Pad 2.7x2.7mm, TI Recommended)
pins: 1 VFB (in) "Converter feedback input. Connect to output voltage with feedback resistor divider", 2 VREG5 (power) "5.5V power supply output A capacitor (typical 1 uF) should be connected to GND. VREG5 is not active when EN is low.", 3 SS (in) "Soft-start control. A external capacitor should be connected to GND.", 4 GND (power) "Signal ground pin.", 5 PG (oc) "Open drain power good output.", 6 EN (in) "Enable control input. EN is active high and must be pulled up to enable the device.", 7 PGND1 (power) "Ground returns for low-side MOSFET. Also serve as inputs of current comparators. Connect PGND and GND strongly together near the IC.", 8 PGND2 (power) "Ground returns for low-side MOSFET. Also serve as inputs of current comparators. Connect PGND and GND strongly together near the IC.", 9 SW1 (power) "Switch node connection between high-side NFET and low-side NFET.Also serve as inputs to current comparators.", 10 SW2 (power) "Switch node connection between high-side NFET and low-side NFET.Also serve as inputs to current comparators.", 11 SW3 (power) "Switch node connection between high-side NFET and low-side NFET.Also serve as inputs to current comparators.", 12 VBST (power) "Supply input for high-side NFETgatedriver(boost terminnal )Connect capacitor from this pin to respective SW1,SW2 terminals.An internal PN diode is connected between VREG5 to VBST pin", 13 VIN1 (power) "Power input and connected to high side NFNT drain .Supply input for 5-V internal linear regulator for the control circuitry.", 14 VIN2 (power) "Power input and connected to high side NFNT drain .Supply input for 5-V internal linear regulator for the control circuitry.", 15 VIN3 (power) "Power input and connected to high side NFNT drain .Supply input for 5-V internal linear regulator for the control circuitry.", 16 VO (in) "Connect to output of converter. This terminal is used for On-Time Adjustment", 17 PP (power) "Thermal pad of the package. Must be soldered to achieve appropriate dissipation. Should be  connected to PGND"